# EAGLE library part ARM_MINI_JTAG (library pixhawk2-updated)
CONNECTOR wire to board 1.25 mm (.049 inch) pitch header
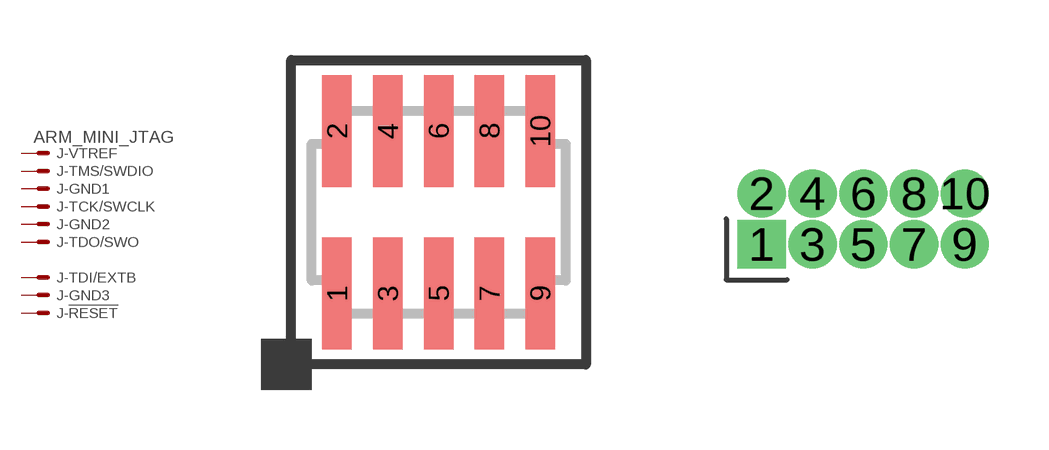
[diagram p7: symbol with the pads of FTSH-105-01-XXX-DV-K; footprints FTSH-105-01-XXX-DV-K, FTSH-105-01-XXX-DV]

Designator prefix J; gates -VTREF=MV -TMS/SWDIO=M -GND1=M -TCK/SWCLK=M -GND2=M -TDO/SWO=M -TDI/EXTB=M -GND3=M -!RESET=M

## ARM_MINI_JTAG  [FTSH-105-01-XXX-DV-K]
1  -VTREF:S  pas
2  -TMS/SWDIO:S  pas
3  -GND1:S  pas
4  -TCK/SWCLK:S  pas
5  -GND2:S  pas
6  -TDO/SWO:S  pas
8  -TDI/EXTB:S  pas
9  -GND3:S  pas
10  -!RESET:S  pas

## ARM_MINI_JTAG-TH  [FTSH-105-01-XXX-DV]
Pads as for FTSH-105-01-XXX-DV-K

## Footprint FTSH-105-01-XXX-DV-K (pad centres in mm)
TERMINAL STRIP, .050 inch(1.27mm) PITCH, 10 PINS, KEYED
smd 0.737 x 2.794: 1 -2.54,-2.032; 2 -2.54,2.032; 3 -1.27,-2.032; 4 -1.27,2.032; 5 0,-2.032; 6 0,2.032; 7 1.27,-2.032; 8 1.27,2.032; 9 2.54,-2.032; 10 2.54,2.032

## Footprint FTSH-105-01-XXX-DV (pad centres in mm)
drill 0.7 pad 1.067 square: 1 0,0
drill 0.7 pad 1.067 round: 2 0,1.27; 3 1.27,0; 4 1.27,1.27; 5 2.54,0; 6 2.54,1.27; 7 3.81,0; 8 3.81,1.27; 9 5.08,0; 10 5.08,1.27